# EAGLE library part PC28F512P33BFD (library circuit_tree)
IC
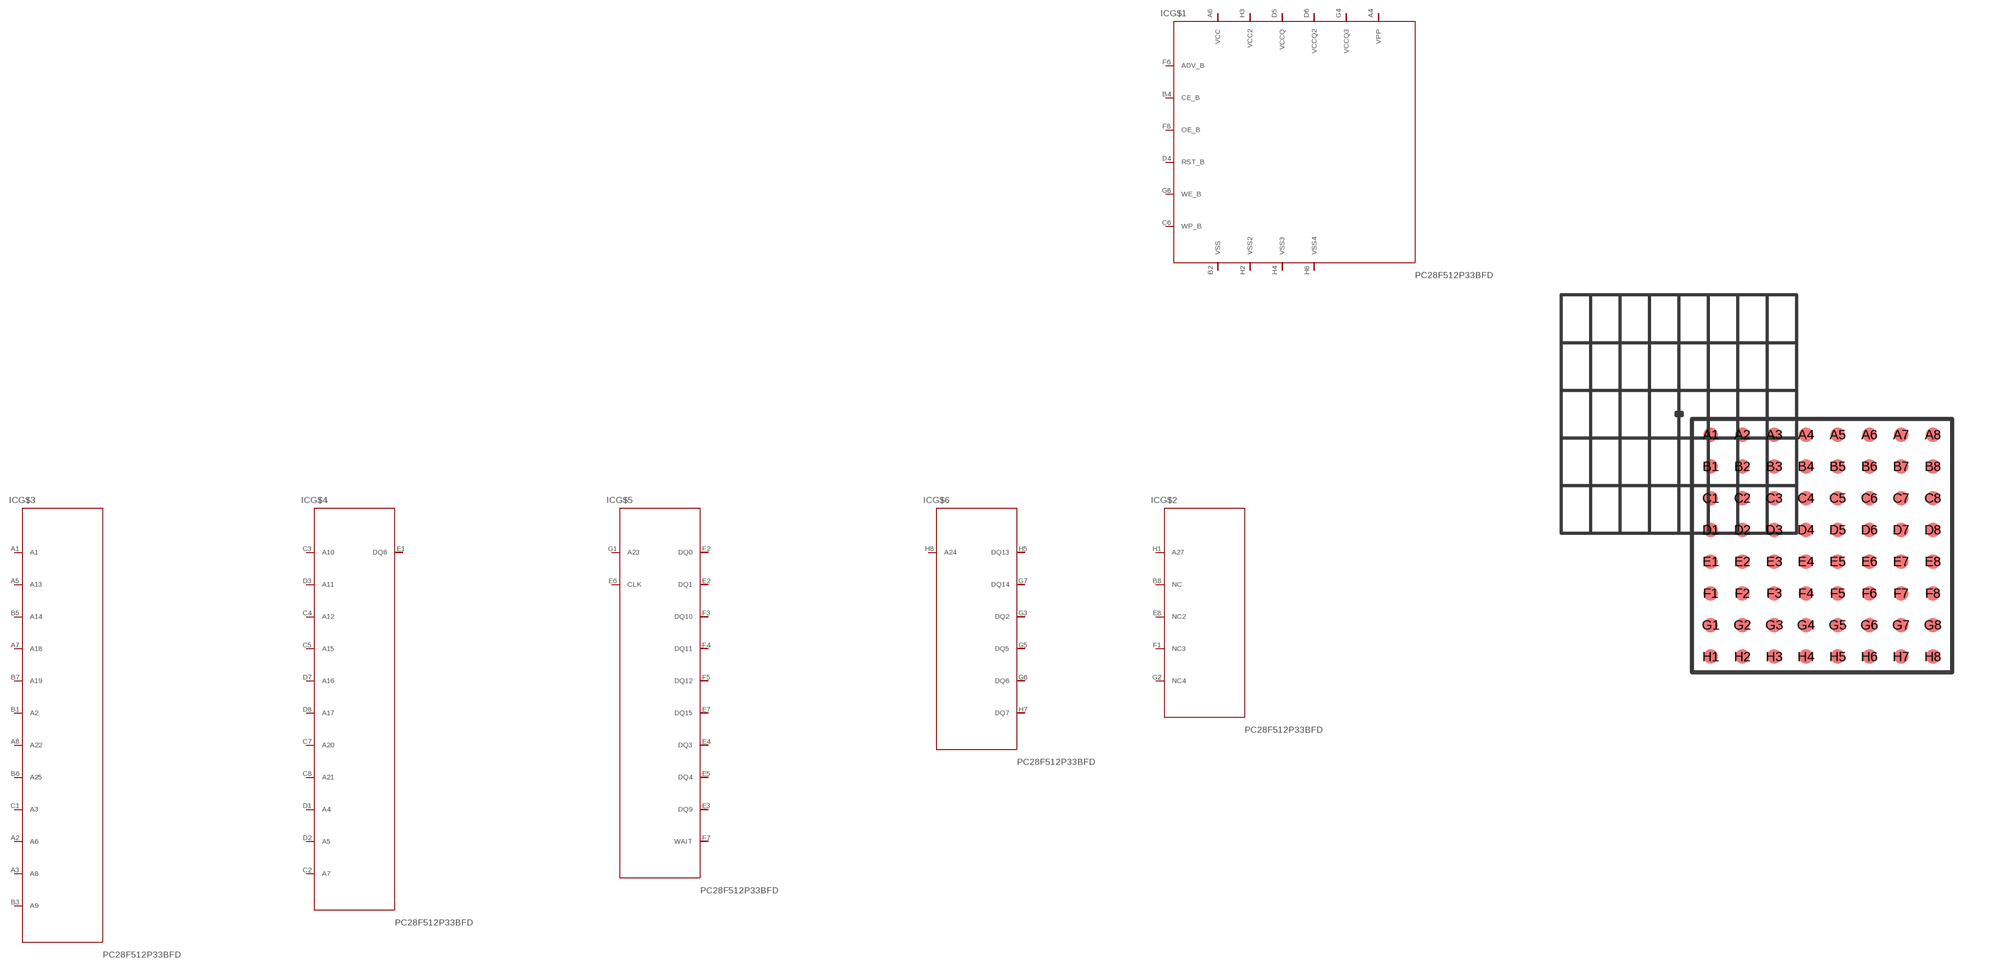
[diagram p3: symbol with the pads of PC28F512P33BFD; footprint PC28F512P33BFD]

Designator prefix IC; gates G$1=PC28F512P33BFD G$2=PC28F512P33BFD2 G$3=PC28F512P33BFD3 G$4=PC28F512P33BFD4 G$5=PC28F512P33BFD5 G$6=PC28F512P33BFD6

## PC28F512P33BFD  [PC28F512P33BFD]
A1  G$3:A1  pas
A2  G$3:A6  pas
A3  G$3:A8  pas
A4  G$1:VPP  pas
A5  G$3:A13  pas
A6  G$1:VCC  pas
A7  G$3:A18  pas
A8  G$3:A22  pas
B1  G$3:A2  pas
B2  G$1:VSS  pas
B3  G$3:A9  pas
B4  G$1:CE_B  pas
B5  G$3:A14  pas
B6  G$3:A25  pas
B7  G$3:A19  pas
B8  G$2:NC  pas
C1  G$3:A3  pas
C2  G$4:A7  pas
C3  G$4:A10  pas
C4  G$4:A12  pas
C5  G$4:A15  pas
C6  G$1:WP_B  pas
C7  G$4:A20  pas
C8  G$4:A21  pas
D1  G$4:A4  pas
D2  G$4:A5  pas
D3  G$4:A11  pas
D4  G$1:RST_B  pas
D5  G$1:VCCQ  pas
D6  G$1:VCCQ2  pas
D7  G$4:A16  pas
D8  G$4:A17  pas
E1  G$4:DQ8  pas
E2  G$5:DQ1  pas
E3  G$5:DQ9  pas
E4  G$5:DQ3  pas
E5  G$5:DQ4  pas
E6  G$5:CLK  pas
E7  G$5:DQ15  pas
E8  G$2:NC2  pas
F1  G$2:NC3  pas
F2  G$5:DQ0  pas
F3  G$5:DQ10  pas
F4  G$5:DQ11  pas
F5  G$5:DQ12  pas
F6  G$1:ADV_B  pas
F7  G$5:WAIT  pas
F8  G$1:OE_B  pas
G1  G$5:A23  pas
G2  G$2:NC4  pas
G3  G$6:DQ2  pas
G4  G$1:VCCQ3  pas
G5  G$6:DQ5  pas
G6  G$6:DQ6  pas
G7  G$6:DQ14  pas
G8  G$1:WE_B  pas
H1  G$2:A27  pas
H2  G$1:VSS2  pas
H3  G$1:VCC2  pas
H4  G$1:VSS3  pas
H5  G$6:DQ13  pas
H6  G$1:VSS4  pas
H7  G$6:DQ7  pas
H8  G$6:A24  pas

## Footprint PC28F512P33BFD (pad centres in mm)
smd 0.45 x 0.45: A1 0,0; A2 1,0; A3 2,0; A4 3,0; A5 4,0; A6 5,0; A7 6,0; A8 7,0; B1 0,-1; B2 1,-1; B3 2,-1; B4 3,-1; B5 4,-1; B6 5,-1; B7 6,-1; B8 7,-1; C1 0,-2; C2 1,-2; C3 2,-2; C4 3,-2; C5 4,-2; C6 5,-2; C7 6,-2; C8 7,-2; D1 0,-3; D2 1,-3; D3 2,-3; D4 3,-3; D5 4,-3; D6 5,-3; D7 6,-3; D8 7,-3; E1 0,-4; E2 1,-4; E3 2,-4; E4 3,-4; E5 4,-4; E6 5,-4; E7 6,-4; E8 7,-4; F1 0,-5; F2 1,-5; F3 2,-5; F4 3,-5; F5 4,-5; F6 5,-5; F7 6,-5; F8 7,-5; G1 0,-6; G2 1,-6; G3 2,-6; G4 3,-6; G5 4,-6; G6 5,-6; G7 6,-6; G8 7,-6; H1 0,-7; H2 1,-7; H3 2,-7; H4 3,-7; H5 4,-7; H6 5,-7; H7 6,-7; H8 7,-7